# Altium footprint library DISCRETE_T1.PcbLib: 293 footprints (part 18 of 19)
Each footprint in its own frame and in the unit in brackets; x right, y up, seen from the top. Pads: shape width x height; smd on the part's side, far side on the other; paste and mask are expansions set on the pad; w line width, h text height; cw(c..) or ccw(c..) is an arc to the next point about the centre after c.
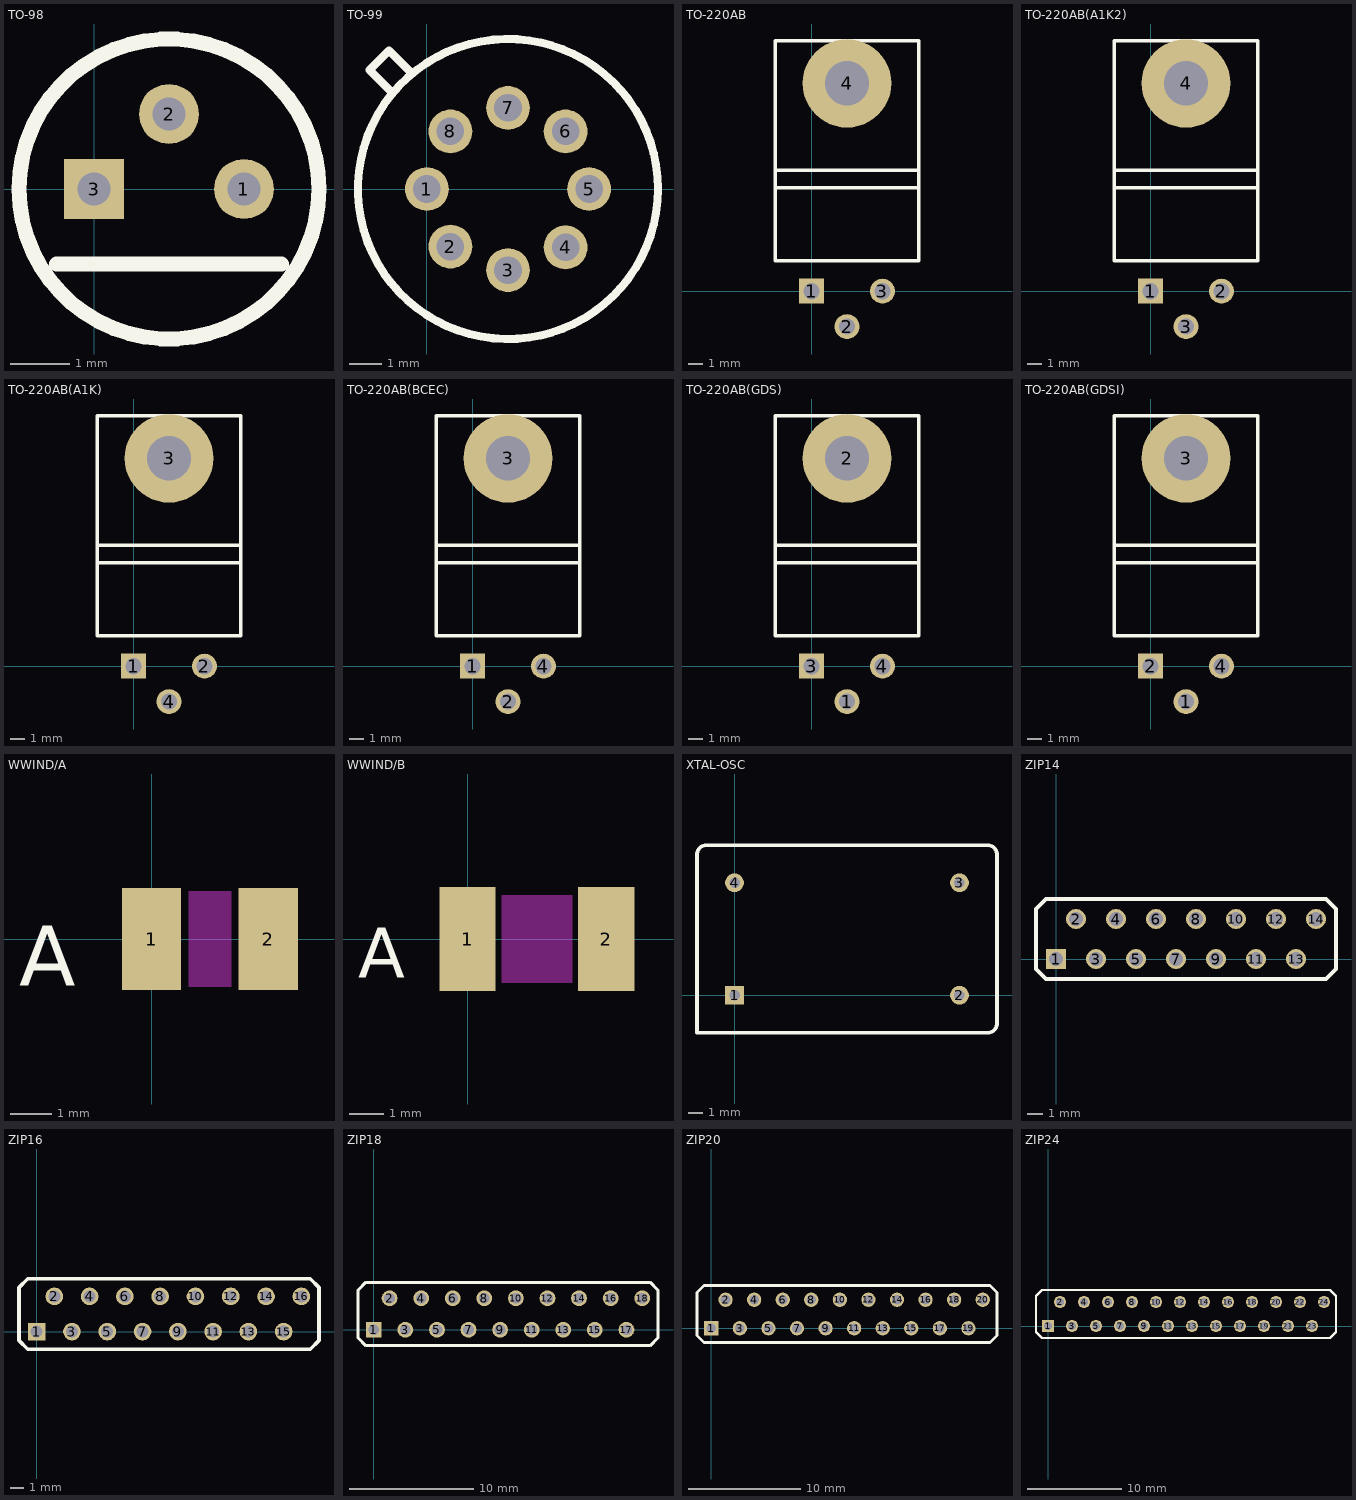
[diagram p17: the footprints below, top view; thin cyan lines are the x and y axes]

## TO-98 [mil]
pads (3):
  round 40 hole 22: 1(100,0) 2(50,50)
  rect 40x40 hole 22: 3(0,0)
Top Overlay:
  circle w10: c50,0 r100
  lines w10: -25,-50 125,-50

## TO-99 [mil]
pads (8):
  round 54 hole 34: 1(0,0) 2(29,-71) 3(100,-100) 4(171,-72) 5(200,0) 6(171,71) 7(100,100) 8(29,71)
Top Overlay:
  circle w10: c100,0 r185
  lines w10: -43,119 -71,147 -47,171 -19,143

## TO-220AB [mil]
pads (4):
  rect 70x70 hole 46: 1(0,0)
  round 70 hole 46: 2(100,-100) 3(200,0)
  round 250 hole 125: 4(100,586)
Top Overlay:
  lines w10: -102,291 302,291 ; -102,341 302,341 ; -102,86 302,86 302,706 -102,706 -102,86

## TO-220AB(A1K2) [mil]
pads (4):
  rect 70x70 hole 46: 1(0,0)
  round 70 hole 46: 2(200,0) 3(100,-100)
  round 250 hole 125: 4(100,586)
Top Overlay:
  lines w10: -102,291 302,291 ; -102,341 302,341 ; -102,86 -102,706 302,706 302,86 -102,86

## TO-220AB(A1K) [mil]
pads (4):
  rect 70x70 hole 46: 1(0,0)
  round 70 hole 46: 2(200,0) 4(100,-100)
  round 250 hole 125: 3(100,586)
Top Overlay:
  lines w10: -102,291 302,291 ; -102,341 302,341 ; -102,86 -102,706 302,706 302,86 -102,86

## TO-220AB(BCEC) [mil]
pads (4):
  rect 70x70 hole 46: 1(0,0)
  round 70 hole 46: 2(100,-100) 4(200,0)
  round 250 hole 125: 3(100,586)
Top Overlay:
  lines w10: -102,291 302,291 ; -102,341 302,341 ; -102,86 -102,706 302,706 302,86 -102,86

## TO-220AB(GDS) [mil]
pads (4):
  round 70 hole 46: 1(100,-100) 4(200,0)
  round 250 hole 125: 2(100,586)
  rect 70x70 hole 46: 3(0,0)
Top Overlay:
  lines w10: -102,291 302,291 ; -102,341 302,341 ; -102,86 302,86 302,706 -102,706 -102,86

## TO-220AB(GDSI) [mil]
pads (4):
  round 70 hole 46: 1(100,-100) 4(200,0)
  rect 70x70 hole 46: 2(0,0)
  round 250 hole 125: 3(100,586)
Top Overlay:
  lines w10: -102,291 302,291 ; -102,341 302,341 ; -102,86 302,86 302,706 -102,706 -102,86

## WWIND/A [mil]
pads (2):
  rect 56x96 smd: 1(0,0) 2(110,0)
Top Overlay:
  text "A" at -125,-44 h56.88
Multi-Layer keep-out:
  region: 75,-45 75,45 35,45 35,-45

## WWIND/B [mil]
pads (2):
  rect 64x118 smd: 1(0,0) 2(158,0)
Top Overlay:
  text "A" at -125,-44 h56.88
Multi-Layer keep-out:
  region: 119,-50 119,50 39,50 39,-50

## XTAL-OSC [mil]
pads (4):
  rect 50x50 hole 28: 1(0,0)
  round 50 hole 28: 2(600,0) 3(600,300) 4(0,300)
Top Overlay:
  lines w10: -100,-100 -100,375 cw(c-75,375) -75,400 675,400 cw(c675,375) 700,375 700,-75 cw(c675,-75) 675,-100 -100,-100

## ZIP14 [mil]
pads (14):
  rect 50x50 hole 34: 1(0,0)
  round 50 hole 34: 2(50,100) 3(100,0) 4(150,100) 5(200,0) 6(250,100) 7(300,0) 8(350,100) 9(400,0) 10(450,100) 11(500,0) 12(550,100) 13(600,0) 14(650,100)
Top Overlay:
  lines w10: -50,-25 -50,125 -25,150 675,150 700,125 700,-25 675,-50 -25,-50 -50,-25

## ZIP16 [mil]
pads (16):
  rect 50x50 hole 34: 1(0,0)
  round 50 hole 34: 2(50,100) 3(100,0) 4(150,100) 5(200,0) 6(250,100) 7(300,0) 8(350,100) 9(400,0) 10(450,100) 11(500,0) 12(550,100) 13(600,0) 14(650,100) 15(700,0) 16(750,100)
Top Overlay:
  lines w10: -50,-25 -50,125 -25,150 775,150 800,125 800,-25 775,-50 -25,-50 -50,-25

## ZIP18 [mil]
pads (18):
  rect 50x50 hole 34: 1(0,0)
  round 50 hole 34: 2(50,100) 3(100,0) 4(150,100) 5(200,0) 6(250,100) 7(300,0) 8(350,100) 9(400,0) 10(450,100) 11(500,0) 12(550,100) 13(600,0) 14(650,100) 15(700,0) 16(750,100) 17(800,0) 18(850,100)
Top Overlay:
  lines w10: -50,-25 -50,125 -25,150 875,150 900,125 900,-25 875,-50 -25,-50 -50,-25

## ZIP20 [mil]
pads (20):
  rect 50x50 hole 34: 1(0,0)
  round 50 hole 34: 2(50,100) 3(100,0) 4(150,100) 5(200,0) 6(250,100) 7(300,0) 8(350,100) 9(400,0) 10(450,100) 11(500,0) 12(550,100) 13(600,0) 14(650,100) 15(700,0) 16(750,100) 17(800,0) 18(850,100) 19(900,0) 20(950,100)
Top Overlay:
  lines w10: -50,-25 -50,125 -25,150 975,150 1000,125 1000,-25 975,-50 -25,-50 -50,-25

## ZIP24 [mil]
pads (24):
  rect 50x50 hole 34: 1(0,0)
  round 50 hole 34: 2(50,100) 3(100,0) 4(150,100) 5(200,0) 6(250,100) 7(300,0) 8(350,100) 9(400,0) 10(450,100) 11(500,0) 12(550,100) 13(600,0) 14(650,100) 15(700,0) 16(750,100) 17(800,0) 18(850,100) 19(900,0) 20(950,100) 21(1000,0) 22(1050,100) 23(1100,0) 24(1150,100)
Top Overlay:
  lines w10: -50,-25 -25,-50 1175,-50 1200,-25 1200,125 1175,150 -25,150 -50,125 -50,-25